# EAGLE library part USDHC (library con-other)
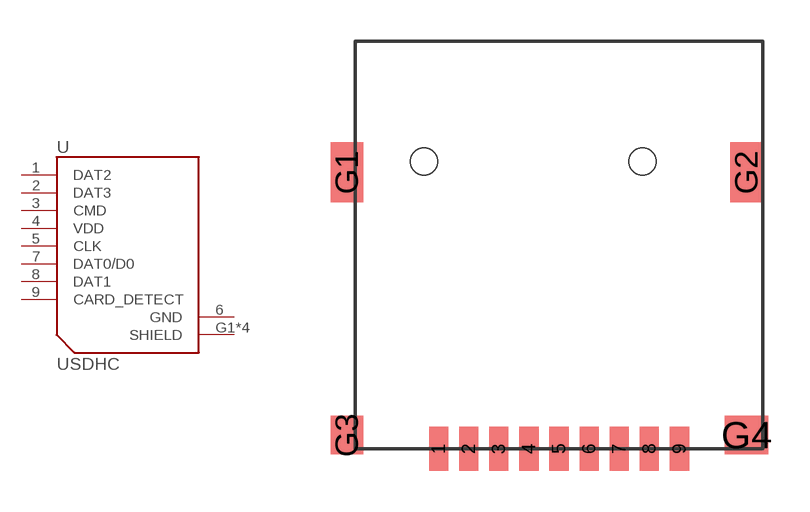
[diagram p1: symbol with the pads of USDHC; footprint USDHC]

Designator prefix -

## USDHC  [USDHC]
1  DAT2
2  DAT3
3  CMD
4  VDD
5  CLK
6  GND
7  DAT0/D0
8  DAT1
9  CARD_DETECT
G1  SHIELD
G2  SHIELD
G3  SHIELD
G4  SHIELD

## Footprint USDHC (pad centres in mm)
smd 0.701 x 1.6: 1 -4.399,-10.5; 2 -3.299,-10.5; 3 -2.2,-10.5; 4 -1.1,-10.5; 5 0,-10.5; 6 1.1,-10.5; 7 2.2,-10.5; 8 3.299,-10.5; 9 4.399,-10.5
smd 1.199 x 2.2: G1 -7.75,-0.399; G2 6.85,-0.399
smd 1.199 x 1.4: G3 -7.75,-10
smd 1.6 x 1.4: G4 6.85,-10
hole 1 at 3.051,0
hole 1 at -4.93,0